# Altium integrated library QRE1113.IntLib: 1 symbol
Pins are listed as number, name and electrical type; pins without a type are passive.

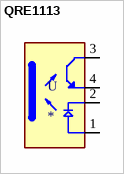
[diagram p0: symbol QRE1113]

## QRE1113
designator U
Reflective Optical Sensor 0.197 _5mm_ 4-DIP _0.157, 4.00mm_; MP: QRE1113; MF: ON Semiconductor; Availability: Unavailable; Package: DIP-4 ON Semiconductor; Value: *; SnapEDA_Link: https://www.snapeda.com/parts/QRE1113/ON%20Semiconductor/view-part/2391104/?ref=snap; Price: None
footprint DIP400W50P180L360H200Q4
pins: 1 A, 2 C, 3 CT, 4 ET